# EAGLE library part JTAG_10 (library HMD_Library)
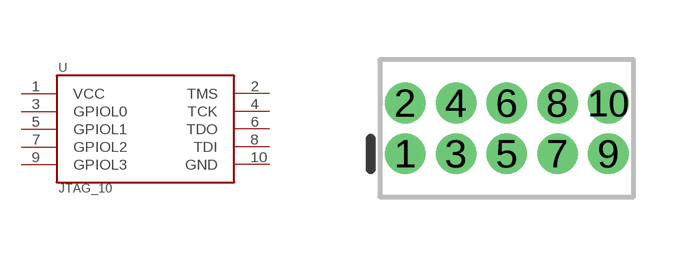
[diagram p2: symbol with the pads of 2X5-PTH-1.27MM; footprint 2X5-PTH-1.27MM]

Designator prefix -

## JTAG_10  [2X5-PTH-1.27MM]
1  VCC  pwr
2  TMS  out
3  GPIOL0
4  TCK  out
5  GPIOL1
6  TDO  out
7  GPIOL2
8  TDI  in
9  GPIOL3
10  GND  pwr

## Footprint 2X5-PTH-1.27MM (pad centres in mm)
Plated Through Hole - 2x5 ARM Cortex Debug Connector (10-pin) tDoc (51) layer border represents maximum dimensions of plastic housing. Specifications: Pin count:10 Pin pitch:1.27mm Datasheet referenced for footprint <http://portal.fciconnect.com/Comergent//fci/drawing/20021111.pdf> Example device(s): CONN_05x2
drill 0.508 pad 1: 1 -2.54,-0.635; 2 -2.54,0.635; 3 -1.27,-0.635; 4 -1.27,0.635; 5 0,-0.635; 6 0,0.635; 7 1.27,-0.635; 8 1.27,0.635; 9 2.54,-0.635; 10 2.54,0.635